# Altium schematic symbol library ICs.SchLib: 74 symbols (part 2 of 2)
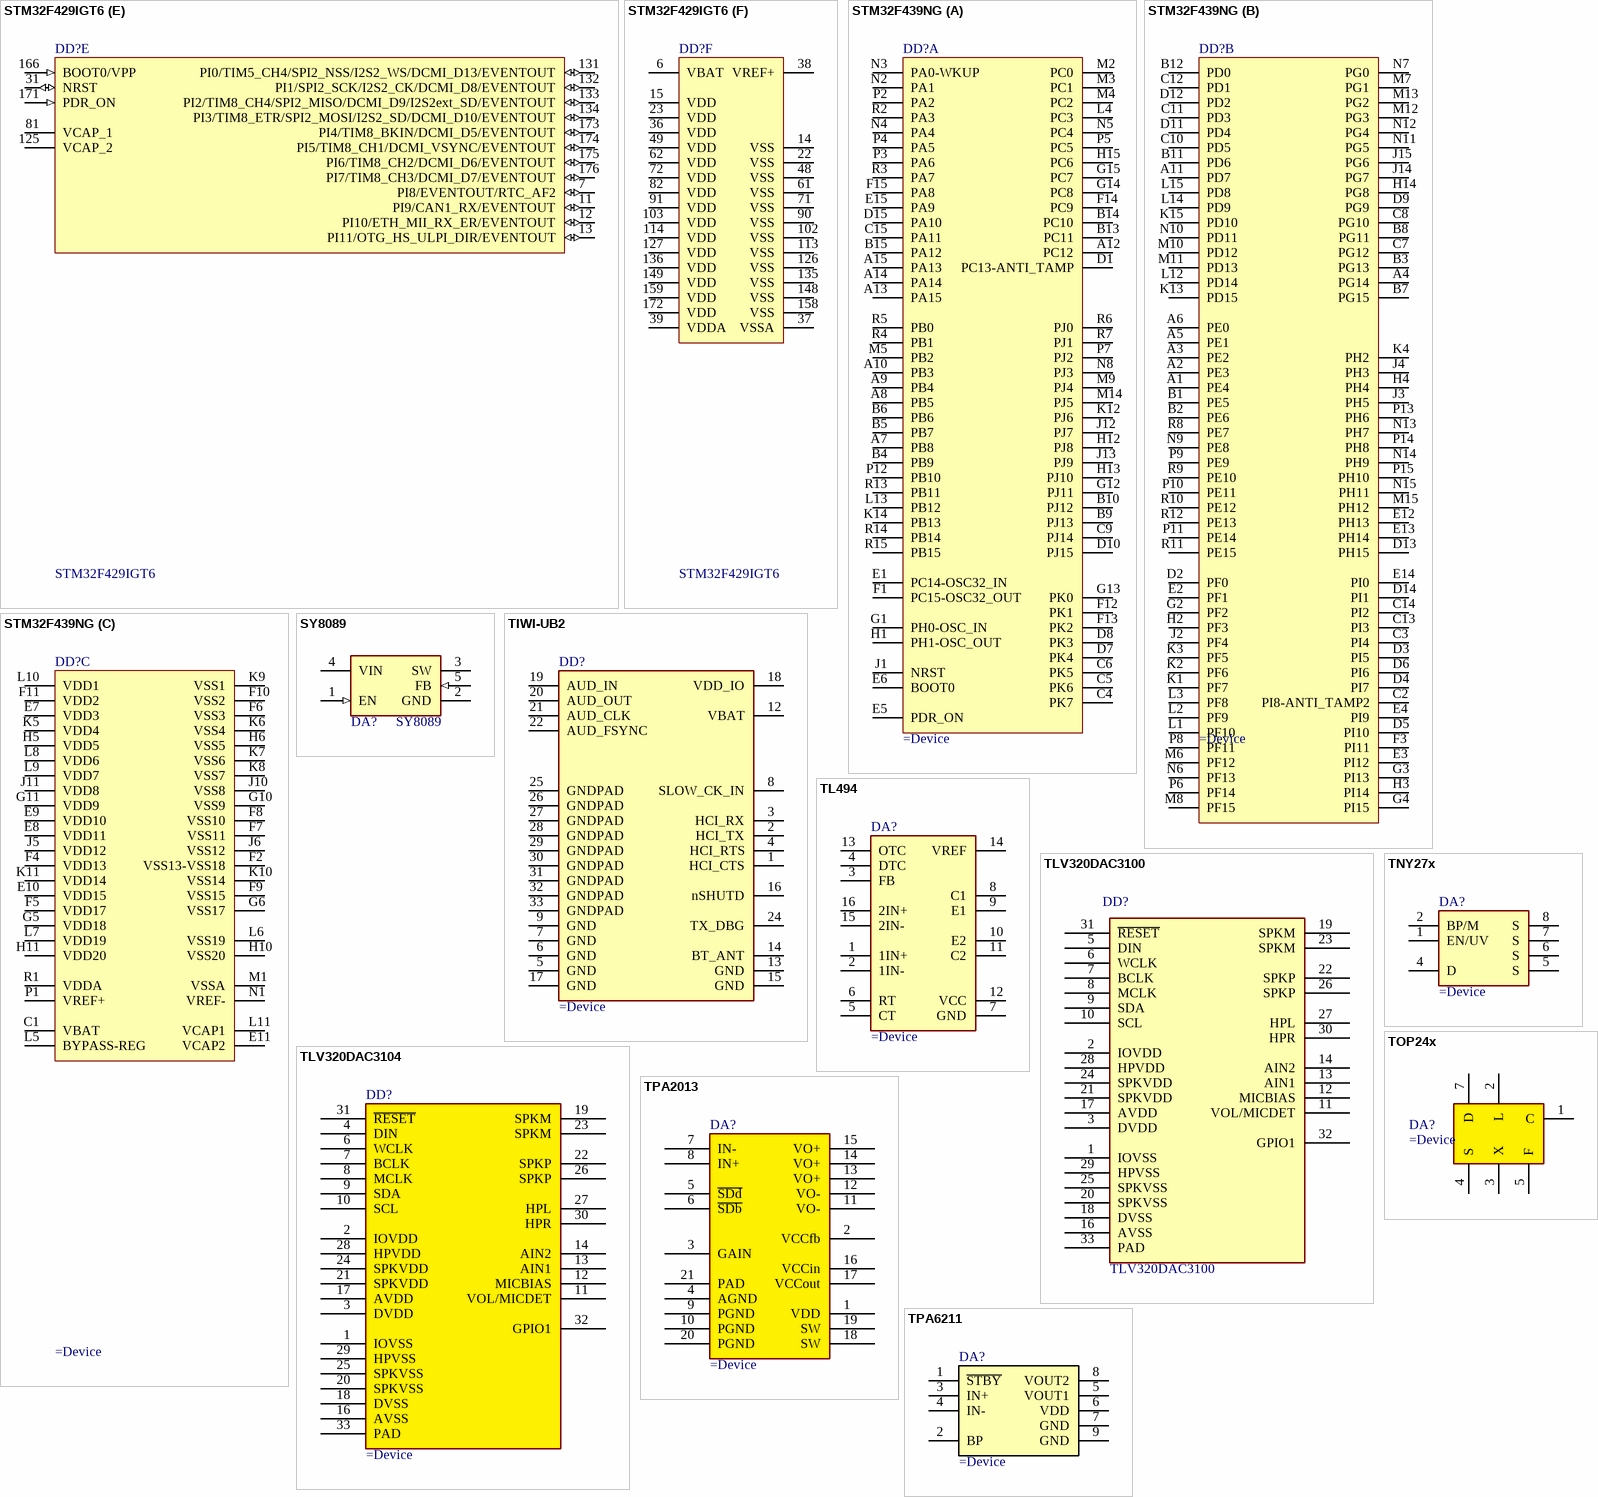
[diagram p11: symbols STM32F429IGT6 to TPA6211]

## STM32F429IGT6
designator DD?
ARM Cortex-M4 32b MCU+FPU, 210DMIP, 512 kB Flash, 192+4 kB RAM, Crypto, Camera, 140 I/Os, 176-pin LQFP, -40 to +85°C, Tray; Internal RAM: 192kB; Operating Frequency (Processor Speed): 168MHz; A/D Converter: 24x12-bit; D/A Converter: 2x12-bit; 16-bit Timers (IC/OC/PWM): 12x16-bit(24/24/30); 32-bit Timer (IC/OC/PWM): 2x32-bit (8/8/8); Other Timer Functions: 2xWDG, RTC, 24-bit down counter; Serial Interface: 3xSPI/2xI2S/2xI2C/3xUSART(IrDa, ISO7816); DatasheetVersion: rev2, Jan-2012; PackageVersion: 2012; PackageReference: LQFP176; PackageDescription: 176-Pin Low Profile Quad Flat Package, 24 x 24 mm Body, 0.5 mm Pitch; ComponentLink1Description: Manufacturer URL; ComponentLink1URL: http://www.st.com/; ComponentLink2Description: STM32F415/7 Datasheet; ComponentLink2URL: http://www.st.com/internet/com/TECHNICAL_RESOURCES/TECHNICAL_LITERATURE/DATASHEET/DM00035129.pdf; ComponentLink3Description: STM32F4 Web Page; ComponentLink3URL: http://www.st.com/internet/mcu/subclass/1521.jsp; PartNumber: STM32F429IGT6
footprint LQFP176_N (Thin QFP, 176-Leads, Body 24x24mm, Pitch 0.5mm, IPC Medium Density)
footprint LQFP176_L (Thin QFP, 176-Leads, Body 24x24mm, Pitch 0.5mm, IPC High Density)
footprint LQFP176_M (Thin QFP, 176-Leads, Body 24x24mm, Pitch 0.5mm, IPC Low Density)
part A pins: 40 PA0-WKUP(PA0)/USART2_CTS/UART4_TX/ETH_MII_CRS/TIM2_CH1_ETR/TIM5_CH1/TIM8_ETR/EVENTOUT/ADC123_IN0/WKUP (io), 41 PA1/USART2_RTS/UART4_RX/ETH_RMII_REF_CLK/ETH_MII_RX_CLK/TIM5_CH2/TIM2_CH2/EVENTOUT/ADC123_IN1 (io), 42 PA2/USART2_TX/TIM5_CH3/TIM9_CH1/TIM2_CH3/ETH_MDIO/EVENTOUT/ADC123_IN2 (io), 47 PA3/USART2_RX/TIM5_CH4/TIM9_CH2/TIM2_CH4/OTG_HS_ULPI_D0/ETH_MII_COL/EVENTOUT/ADC123_IN3 (io), 50 PA4/SPI1_NSS/SPI3_NSS/USART2_CK/DCMI_HSYNC/OTG_HS_SOF/I2S3_WS/EVENTOUT/ADC12_IN4/DAC1_OUT (io), 51 PA5/SPI1_SCK/OTG_HS_ULPI_CK/TIM2_CH1_ETR/TIM8_CHIN/EVENTOUT/ADC12_IN5/DAC2_OUT (io), 52 PA6/SPI1_MISO/TIM8_BKIN/TIM13_CH1/DCMI_PIXCLK/TIM3_CH1/TIM1_BKIN/EVENTOUT/ADC12_IN6 (io), 53 PA7/SPI1_MOSI/TIM8_CH1N/TIM14_CH1/TIM3_CH2/ETH_MII_RX_DV/TIM1_CH1N/RMII_CRS_DV/EVENTOUT/ADC12_IN7 (io), 56 PB0/TIM3_CH3/TIM8_CH2N/OTG_HS_ULPI_D1/ETH_MII_RXD2/TIM1_CH2N/EVENTOUT/ADC12_IN8 (io), 57 PB1/TIM3_CH4/TIM8_CH3N/OTG_HS_ULPI_D2/ETH_MII_RXD3/OTG_HS_INTN/TIM1_CH3N/EVENTOUT/ADC12_IN9 (io), 58 PB2-BOOT1(PB2)/EVENTOUT (io), 79 PB10/SPI2_SCK/I2S2_CK/I2C2_SCL/USART3_TX/OTG_HS_ULPI_D3/ETH_MII_RX_ER/TIM2_CH3/EVENTOUT (io), 80 PB11/I2C2_SDA/USART3_RX/OTG_HS_ULPI_D4/ETH_RMII_TX_EN/ETH_MII_TX_EN/TIM2_CH4/EVENTOUT (io), 92 PB12/SPI2_NSS/I2S2_WS/I2C2_SMBA/USART3_CK/TIM1_BKIN/CAN2_RX/OTG_HS_ULPI_D5/ETH_RMII_TXD0/ETH_MII_TXD0/OTG_HS_ID/EVENTOUT (io), 93 PB13/SPI2_SCK/I2S2_CK/USART3_CTS/TIM1_CH1N/CAN2_TX/OTG_HS_ULPI_D6/ETH_RMII_TXD1/ETH_MII_TXD1/EVENTOUT/OTG_HS_VBUS (io), 94 PB14/SPI2_MISO/TIM1_CH2N/TIM12_CH1/OTG_HS_DM/USART3_RTS/TIM8_CH2N/I2S2ext_SD/EVENTOUT (io), 95 PB15/SPI2_MOSI/I2S2_SD/TIM1_CH3N/TIM8_CH3N/TIM12_CH2/OTG_HS_DP/EVENTOUT (io), 119 PA8/MCO1/USART1_CK/TIM1_CH1/I2C3_SCL/OTG_FS_SOF/EVENTOUT (io), 120 PA9/USART1_TX/TIM1_CH2/I2C3_SMBA/DCMI_D0/EVENTOUT/OTG_FS_VBUS (io), 121 PA10/USART1_RX/TIM1_CH3/OTG_FS_ID/DCMI_D1/EVENTOUT (io), 122 PA11/USART1_CTS/CAN1_RX/TIM1_CH4/OTG_FS_DM/EVENTOUT (io), 123 PA12/USART1_RTS/CAN1_TX/TIM1_ETR/OTG_FS_DP/EVENTOUT (io), 124 PA13(JTMS-SWDIO)/JTMS-SWDIO/EVENTOUT (io), 137 PA14(JTCK-SWCLK)/JTCK-SWCLK/EVENTOUT (io), 138 PA15(JTDI)/JTDI/SPI3_NSS/I2S3_WS/TIM2_CH1_ETR/SPI1_NSS/EVENTOUT (io), 161 PB3(JTDO/TRACESWO)/JTDO/TRACESWO/SPI3_SCK/I2S3_CK/TIM2_CH2/SPI1_SCK/EVENTOUT (io), 162 PB4(NJTRST)/NJTRST/SPI3_MISO/TIM3_CH1/SPI1_MISO/I2S3ext_SD/EVENTOUT (io), 163 PB5/I2C1_SMBA/CAN2_RX/OTG_HS_ULPI_D7/ETH_PPS_OUT/TIM3_CH2/SPI1_MOSI/SPI3_MOSI/DCMI_D10/I2S3_SD/EVENTOUT (io), 164 PB6/I2C1_SCL/TIM4_CH1/CAN2_TX/DCMI_D5/USART1_TX/EVENTOUT (io), 165 PB7/I2C1_SDA/FSMC_NL/DCMI_VSYNC/USART1_RX/TIM4_CH2/EVENTOUT (io), 167 PB8/TIM4_CH3/SDIO_D4/TIM10_CH1/DCMI_D6/ETH_MII_TXD3/I2C1_SCL/CAN1_RX/EVENTOUT (io), 168 PB9/SPI2_NSS/I2S2_WS/TIM4_CH4/TIM11_CH1/SDIO_D5/DCMI_D7/I2C1_SDA/CAN1_TX/EVENTOUT (io)
part B pins: 8 PC13/EVENTOUT/RTC_AF1 (io), 9 PC14-OSC32_IN(PC14)/EVENTOUT/OSC32_IN (io), 10 PC15-OSC32_OUT(PC15)/EVENTOUT/OSC32_OUT (io), 32 PC0/OTG_HS_ULPI_STP/EVENTOUT/ADC123_IN10 (io), 33 PC1/ETH_MDC/EVENTOUT/ADC123_IN11 (io), 34 PC2/SPI2_MISO/OTG_HS_ULPI_DIR/TH_MII_TXD2/I2S2ext_SD/EVENTOUT/ADC123_IN12 (io), 35 PC3/SPI2_MOSI/I2S2_SD/OTG_HS_ULPI_NXT/ETH_MII_TX_CLK/EVENTOUT/ADC123_IN13 (io), 54 PC4/ETH_RMII_RX_D0/ETH_MII_RX_D0/EVENTOUT/ADC12_IN14 (io), 55 PC5/ETH_RMII_RX_D1/ETH_MII_RX_D1/EVENTOUT/ADC12_IN15 (io), 96 PD8/FSMC_D13/USART3_TX/EVENTOUT (io), 97 PD9/FSMC_D14/USART3_RX/EVENTOUT (io), 98 PD10/FSMC_D15/USART3_CK/EVENTOUT (io), 99 PD11/FSMC_CLE/FSMC_A16/USART3_CTS/EVENTOUT (io), 100 PD12/FSMC_ALE/FSMC_A17/TIM4_CH1/USART3_RTS/EVENTOUT (io), 101 PD13/FSMC_A18/TIM4_CH2/EVENTOUT (io), 104 PD14/FSMC_D0/TIM4_CH3/EVENTOUT/EVENTOUT (io), 105 PD15/FSMC_D1/TIM4_CH4/EVENTOUT (io), 115 PC6/I2S2_MCK/TIM8_CH1/SDIO_D6/USART6_TX/DCMI_D0/TIM3_CH1/EVENTOUT (io), 116 PC7/I2S3_MCK/TIM8_CH2/SDIO_D7/USART6_RX/DCMI_D1/TIM3_CH2/EVENTOUT (io), 117 PC8/TIM8_CH3/SDIO_D0/TIM3_CH3/USART6_CK/DCMI_D2/EVENTOUT (io), 118 PC9/I2S_CKIN/MCO2/TIM8_CH4/SDIO_D1//I2C3_SDA/DCMI_D3/TIM3_CH4/EVENTOUT (io), 139 PC10/SPI3_SCK/I2S3_CK/UART4_TX/SDIO_D2/DCMI_D8/USART3_TX/EVENTOUT (io), 140 PC11/UART4_RX/SPI3_MISO/SDIO_D3/DCMI_D4/USART3_RX/I2S3ext_SD/EVENTOUT (io), 141 PC12/UART5_TX/SDIO_CK/DCMI_D9/SPI3_MOSI/I2S3_SD/USART3_CK/EVENTOUT (io), 142 PD0/FSMC_D2/CAN1_RX/EVENTOUT (io), 143 PD1/FSMC_D3/CAN1_TX/EVENTOUT (io), 144 PD2/TIM3_ETR/UART5_RX/SDIO_CMD/DCMI_D11/EVENTOUT (io), 145 PD3/FSMC_CLK/USART2_CTS/EVENTOUT (io), 146 PD4/FSMC_NOE/USART2_RTS/EVENTOUT (io), 147 PD5/FSMC_NWE/USART2_TX/EVENTOUT (io), 150 PD6/FSMC_NWAIT/USART2_RX/EVENTOUT (io), 151 PD7/USART2_CK/FSMC_NE1/FSMC_NCE2/EVENTOUT (io)
part C pins: 1 PE2/TRACECLK/FSMC_A23/ETH_MII_TXD3/EVENTOUT (io), 2 PE3/TRACED0/FSMC_A19/EVENTOUT (io), 3 PE4/TRACED1/FSMC_A20/DCMI_D4/EVENTOUT (io), 4 PE5/TRACED2/FSMC_A21/TIM9_CH1/DCMI_D6/EVENTOUT (io), 5 PE6/TRACED3/FSMC_A22/TIM9_CH2/DCMI_D7/EVENTOUT (io), 16 PF0/FSMC_A0/I2C2_SDA/EVENTOUT (io), 17 PF1/FSMC_A1/I2C2_SCL/EVENTOUT (io), 18 PF2/FSMC_A2/I2C2_SMBA/EVENTOUT (io), 19 PF3/FSMC_A3/EVENTOUT/ADC3_IN9 (io), 20 PF4/FSMC_A4/EVENTOUT/ADC3_IN14 (io), 21 PF5/FSMC_A5/EVENTOUT/ADC3_IN15 (io), 24 PF6/TIM10_CH1/FSMC_NIORD/EVENTOUT/ADC3_IN4 (io), 25 PF7/TIM11_CH1/FSMC_NREG/EVENTOUT/ADC3_IN5 (io), 26 PF8/TIM13_CH1/FSMC_NIOWR/EVENTOUT/ADC3_IN6 (io), 27 PF9/TIM14_CH1/FSMC_CD/EVENTOUT/ADC3_IN7 (io), 28 PF10/FSMC_INTR/EVENTOUT/ADC3_IN8 (io), 59 PF11/DCMI_12/EVENTOUT (io), 60 PF12/FSMC_A6/EVENTOUT (io), 63 PF13/FSMC_A7/EVENTOUT (io), 64 PF14/FSMC_A8/EVENTOUT (io), 65 PF15/FSMC_A9/EVENTOUT (io), 68 PE7/FSMC_D4/TIM1_ETR/EVENTOUT (io), 69 PE8/FSMC_D5/TIM1_CH1N/EVENTOUT (io), 70 PE9/FSMC_D6/TIM1_CH1/EVENTOUT (io), 73 PE10/FSMC_D7/TIM1_CH2N/EVENTOUT (io), 74 PE11/FSMC_D8/TIM1_CH2/EVENTOUT (io), 75 PE12/FSMC_D9/TIM1_CH3N/EVENTOUT (io), 76 PE13/FSMC_D10/TIM1_CH3/EVENTOUT (io), 77 PE14/FSMC_D11/TIM1_CH4/EVENTOUT (io), 78 PE15/FSMC_D12/TIM1_BKIN/EVENTOUT (io), 169 PE0/TIM4_ETR/FSMC_NBL0/DCMI_D2/EVENTOUT (io), 170 PE1/FSMC_NBL1/DCMI_D3/EVENTOUT (io)
part D pins: 29 PH0-OSC_IN(PH0)/EVENTOUT/OSC_IN (io), 30 PH1-OSC_OUT(PH1)/EVENTOUT/OSC_OUT (io), 43 PH2/ETH_MII_CRS/EVENTOUT (io), 44 PH3/ETH_MII_COL/EVENTOUT (io), 45 PH4/I2C2_SCL/OTG_HS_ULPI_NXT/EVENTOUT (io), 46 PH5/I2C2_SDA/EVENTOUT (io), 66 PG0/FSMC_A10/EVENTOUT (io), 67 PG1/FSMC_A11/EVENTOUT (io), 83 PH6/I2C2_SMBA/TIM12_CH1/ETH_MII_RXD2/EVENTOUT (io), 84 PH7/I2C3_SCL/ETH_MII_RXD3/EVENTOUT (io), 85 PH8/I2C3_SDA/DCMI_HSYNC/EVENTOUT (io), 86 PH9/I2C3_SMBA/TIM12_CH2/DCMI_D0/EVENTOUT (io), 87 PH10/TIM5_CH1/DCMI_D1/EVENTOUT (io), 88 PH11/TIM5_CH2/DCMI_D2/EVENTOUT (io), 89 PH12/TIM5_CH3/DCMI_D3/EVENTOUT (io), 106 PG2/FSMC_A12/EVENTOUT (io), 107 PG3/FSMC_A13/EVENTOUT (io), 108 PG4/FSMC_A14/EVENTOUT (io), 109 PG5/FSMC_A15/EVENTOUT (io), 110 PG6/FSMC_INT2/EVENTOUT (io), 111 PG7/FSMC_INT3/USART6_CK/EVENTOUT (io), 112 PG8/USART6_RTS/ETH_PPS_OUT/EVENTOUT (io), 128 PH13/TIM8_CH1N/CAN1_TX/EVENTOUT (io), 129 PH14/TIM8_CH2N/DCMI_D4/EVENTOUT (io), 130 PH15/TIM8_CH3N/DCMI_D11/EVENTOUT (io), 152 PG9/USART6_RX/FSMC_NE2/FSMC_NCE3/EVENTOUT (io), 153 PG10/FSMC_NCE4_1/FSMC_NE3/EVENTOUT (io), 154 PG11/FSMC_NCE4_2/ETH_MII_TX_EN/ETH_RMII_TX_EN/EVENTOUT (io), 155 PG12/FSMC_NE4/USART6_RTS/EVENTOUT (io), 156 PG13/FSMC_A24/USART6_CTS/ETH_MII_TXD0/ETH_RMII_TXD0/EVENTOUT (io), 157 PG14/FSMC_A25/USART6_TX/ETH_MII_TXD1/ETH_RMII_TXD1/EVENTOUT (io), 160 PG15/USART6_CTS/DCMI_D13/EVENTOUT (io)
part E pins: 7 PI8/EVENTOUT/RTC_AF2 (io), 11 PI9/CAN1_RX/EVENTOUT (io), 12 PI10/ETH_MII_RX_ER/EVENTOUT (io), 13 PI11/OTG_HS_ULPI_DIR/EVENTOUT (io), 31 NRST (io), 81 VCAP_1 (power), 125 VCAP_2 (power), 131 PI0/TIM5_CH4/SPI2_NSS/I2S2_WS/DCMI_D13/EVENTOUT (io), 132 PI1/SPI2_SCK/I2S2_CK/DCMI_D8/EVENTOUT (io), 133 PI2/TIM8_CH4/SPI2_MISO/DCMI_D9/I2S2ext_SD/EVENTOUT (io), 134 PI3/TIM8_ETR/SPI2_MOSI/I2S2_SD/DCMI_D10/EVENTOUT (io), 166 BOOT0/VPP (in), 171 PDR_ON (in), 173 PI4/TIM8_BKIN/DCMI_D5/EVENTOUT (io), 174 PI5/TIM8_CH1/DCMI_VSYNC/EVENTOUT (io), 175 PI6/TIM8_CH2/DCMI_D6/EVENTOUT (io), 176 PI7/TIM8_CH3/DCMI_D7/EVENTOUT (io)
part F pins: 6 VBAT (power), 14 VSS (power), 15 VDD (power), 22 VSS (power), 23 VDD (power), 36 VDD (power), 37 VSSA (power), 38 VREF+ (power), 39 VDDA (power), 48 VSS (power), 49 VDD (power), 61 VSS (power), 62 VDD (power), 71 VSS (power), 72 VDD (power), 82 VDD (power), 90 VSS (power), 91 VDD (power), 102 VSS (power), 103 VDD (power), 113 VSS (power), 114 VDD (power), 126 VSS (power), 127 VDD (power), 135 VSS (power), 136 VDD (power), 148 VSS (power), 149 VDD (power), 158 VSS (power), 159 VDD (power), 172 VDD (power)

## STM32F439NG
designator DD?
PartNumber: STM32F439NG
footprint TFBGA216
part A pins: A7 PB8, A8 PB5, A9 PB4, A10 PB3, A12 PC12, A13 PA15, A14 PA14, A15 PA13, B4 PB9, B5 PB7, B6 PB6, B9 PJ13, B10 PJ12, B13 PC11, B14 PC10, B15 PA12, C4 PK7, C5 PK6, C6 PK5, C9 PJ14, C15 PA11, D1 PC13-ANTI_TAMP, D7 PK4, D8 PK3, D10 PJ15, D15 PA10, E1 PC14-OSC32_IN, E5 PDR_ON, E6 BOOT0, E15 PA9, F1 PC15-OSC32_OUT, F12 PK1, F13 PK2, F14 PC9, F15 PA8, G1 PH0-OSC_IN, G12 PJ11, G13 PK0, G14 PC8, G15 PC7, H1 PH1-OSC_OUT, H12 PJ8, H13 PJ10, H15 PC6, J1 NRST, J12 PJ7, J13 PJ9, K12 PJ6, K14 PB13, L4 PC3, L13 PB12, M2 PC0, M3 PC1, M4 PC2, M5 PB2, M9 PJ4, M14 PJ5, N2 PA1, N3 PA0-WKUP, N4 PA4, N5 PC4, N8 PJ3, P2 PA2, P3 PA6, P4 PA5, P5 PC5, P7 PJ2, P12 PB10, R2 PA3, R3 PA7, R4 PB1, R5 PB0, R6 PJ0, R7 PJ1, R13 PB11, R14 PB14, R15 PB15
part B pins: A1 PE4, A2 PE3, A3 PE2, A4 PG14, A5 PE1, A6 PE0, A11 PD7, B1 PE5, B2 PE6, B3 PG13, B7 PG15, B8 PG11, B11 PD6, B12 PD0, C2 PI8-ANTI_TAMP2, C3 PI4, C7 PG12, C8 PG10, C10 PD5, C11 PD3, C12 PD1, C13 PI3, C14 PI2, D2 PF0, D3 PI5, D4 PI7, D5 PI10, D6 PI6, D9 PG9, D11 PD4, D12 PD2, D13 PH15, D14 PI1, E2 PF1, E3 PI12, E4 PI9, E12 PH13, E13 PH14, E14 PI0, F3 PI11, G2 PF2, G3 PI13, G4 PI15, H2 PF3, H3 PI14, H4 PH4, H14 PG8, J2 PF4, J3 PH5, J4 PH3, J14 PG7, J15 PG6, K1 PF7, K2 PF6, K3 PF5, K4 PH2, K13 PD15, K15 PD10, L1 PF10, L2 PF9, L3 PF8, L12 PD14, L14 PD9, L15 PD8, M6 PF12, M7 PG1, M8 PF15, M10 PD12, M11 PD13, M12 PG3, M13 PG2, M15 PH12, N6 PF13, N7 PG0, N9 PE8, N10 PD11, N11 PG5, N12 PG4, N13 PH7, N14 PH9, N15 PH11, P6 PF14, P8 PF11, P9 PE9, P10 PE11, P11 PE14, P13 PH6, P14 PH8, P15 PH10, R8 PE7, R9 PE10, R10 PE12, R11 PE15, R12 PE13
part C pins: C1 VBAT, E7 VDD3, E8 VDD11, E9 VDD10, E10 VDD15, E11 VCAP2, F2 VSS13-VSS18, F4 VDD13, F5 VDD17, F6 VSS3, F7 VSS11, F8 VSS10, F9 VSS15, F10 VSS2, F11 VDD2, G5 VDD18, G6 VSS17, G10 VSS9, G11 VDD9, H5 VDD5, H6 VSS5, H10 VSS20, H11 VDD20, J5 VDD12, J6 VSS12, J10 VSS8, J11 VDD8, K5 VDD4, K6 VSS4, K7 VSS6, K8 VSS7, K9 VSS1, K10 VSS14, K11 VDD14, L5 BYPASS-REG, L6 VSS19, L7 VDD19, L8 VDD6, L9 VDD7, L10 VDD1, L11 VCAP1, M1 VSSA, N1 VREF-, P1 VREF+, R1 VDDA
2 alternate drawings of the same symbol

## SY8089
designator DA?
Table: Regulators; Part Number: SY8089; Device: SY8089
footprint SOT23-5
pins: 1 EN (in), 2 GND (power), 3 SW (power), 4 VIN (power), 5 FB (in)

## TIWI-UB2
designator DD?
pins: 1 HCI_CTS "Resistor", 2 HCI_TX "Resistor", 3 HCI_RX "Resistor", 4 HCI_RTS "Resistor", 5 GND "Resistor", 6 GND "Resistor", 7 GND "Resistor", 8 SLOW_CK_IN "Resistor", 9 GND "Resistor", 12 VBAT "Resistor", 13 GND "Resistor", 14 BT_ANT "Resistor", 15 GND "Resistor", 16 nSHUTD "Resistor", 17 GND "Resistor", 18 VDD_IO "Resistor", 19 AUD_IN "Resistor", 20 AUD_OUT "Resistor", 21 AUD_CLK "Resistor", 22 AUD_FSYNC "Resistor", 24 TX_DBG "Resistor", 25 GNDPAD "Resistor", 26 GNDPAD "Resistor", 27 GNDPAD "Resistor", 28 GNDPAD "Resistor", 29 GNDPAD "Resistor", 30 GNDPAD "Resistor", 31 GNDPAD "Resistor", 32 GNDPAD "Resistor", 33 GNDPAD "Resistor"

## TL494
designator DA?
pins: 1 1IN+, 2 1IN-, 3 FB, 4 DTC, 5 CT, 6 RT, 7 GND, 8 C1, 9 E1, 10 E2, 11 C2, 12 VCC, 13 OTC, 14 VREF, 15 2IN-, 16 2IN+

## TLV320DAC3100
designator DD?
PartNumber: TLV320DAC3100
footprint QFN32 (QFN, 32-Leads, Body 5,00x5,00mm, Pitch 0,50mm, Thermal Pad 3,50x3,50mm, IPC Medium Density)
pins: 1 IOVSS, 2 IOVDD, 3 DVDD, 5 DIN, 6 WCLK, 7 BCLK, 8 MCLK, 9 SDA, 10 SCL, 11 VOL/MICDET, 12 MICBIAS, 13 AIN1, 14 AIN2, 16 AVSS, 17 AVDD, 18 DVSS, 19 SPKM, 20 SPKVSS, 21 SPKVDD, 22 SPKP, 23 SPKM, 24 SPKVDD, 25 SPKVSS, 26 SPKP, 27 HPL, 28 HPVDD, 29 HPVSS, 30 HPR, 31 ~{RESET}, 32 GPIO1, 33 PAD

## TLV320DAC3104
designator DD?
pins: 1 IOVSS, 2 IOVDD, 3 DVDD, 4 DIN, 6 WCLK, 7 BCLK, 8 MCLK, 9 SDA, 10 SCL, 11 VOL/MICDET, 12 MICBIAS, 13 AIN1, 14 AIN2, 16 AVSS, 17 AVDD, 18 DVSS, 19 SPKM, 20 SPKVSS, 21 SPKVDD, 22 SPKP, 23 SPKM, 24 SPKVDD, 25 SPKVSS, 26 SPKP, 27 HPL, 28 HPVDD, 29 HPVSS, 30 HPR, 31 ~{RESET}, 32 GPIO1, 33 PAD

## TNY27x
designator DA?
pins: 1 EN/UV, 2 BP/M, 4 D, 5 S, 6 S, 7 S, 8 S

## TOP24x
designator DA?
pins: 1 C, 2 L, 3 X, 4 S, 5 F, 7 D

## TPA2013
designator DA?
Amplifier
pins: 1 VDD, 2 VCCfb, 3 GAIN, 4 AGND, 5 ~{SDd}, 6 ~{SDb}, 7 IN-, 8 IN+, 9 PGND, 10 PGND, 11 VO-, 12 VO-, 13 VO+, 14 VO+, 15 VO+, 16 VCCin, 17 VCCout, 18 SW, 19 SW, 20 PGND, 21 PAD

## TPA6211
designator DA?
pins: 1 ~{STBY}, 2 BP, 3 IN+, 4 IN-, 5 VOUT1, 6 VDD, 7 GND, 8 VOUT2, 9 GND

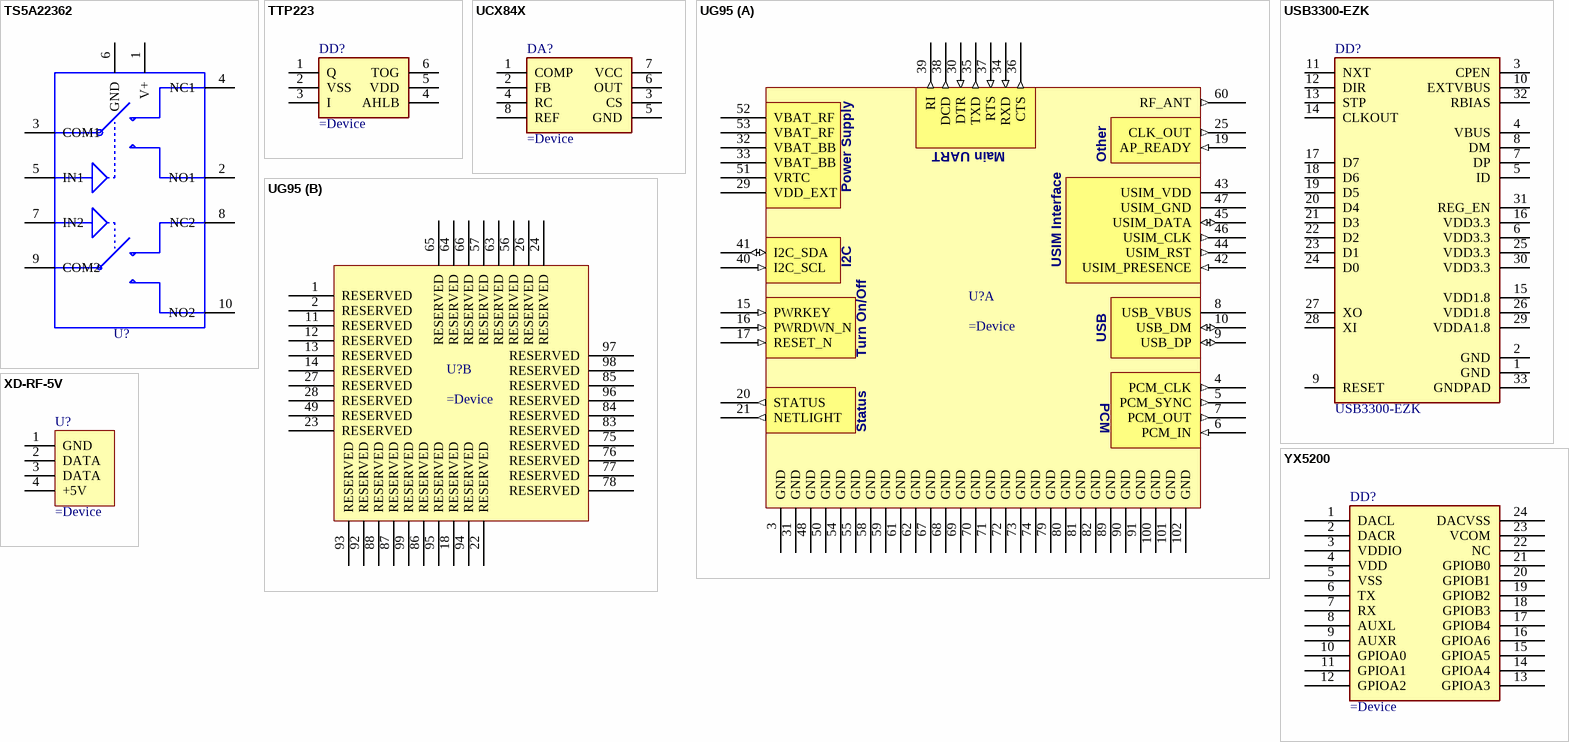
[diagram p10: symbols TS5A22362 to YX5200]

## TS5A22362
designator U?
PCB DECAL: TS5A22362; VALUE: NM_TS5A22362DGSR
pins: 1 V+, 2 NO1, 3 COM1, 4 NC1, 5 IN1, 6 GND, 7 IN2, 8 NC2, 9 COM2, 10 NO2

## TTP223
designator DD?
pins: 1 Q, 2 VSS, 3 I, 4 AHLB, 5 VDD, 6 TOG

## UCX84X
designator DA?
pins: 1 COMP, 2 FB, 3 CS, 4 RC, 5 GND, 6 OUT, 7 VCC, 8 REF

## UG95
designator U?
part A pins: 3 GND  (power), 4 PCM_CLK (out), 5 PCM_SYNC (out), 6 PCM_IN (in), 7 PCM_OUT (out), 8 USB_VBUS (power), 9 USB_DP (io), 10 USB_DM (io), 15 PWRKEY (in), 16 PWRDWN_N (in), 17 RESET_N (in), 19 AP_READY (in), 20 STATUS (out), 21 NETLIGHT (out), 25 CLK_OUT (out), 29 VDD_EXT (power), 30 DTR (in), 31 GND  (power), 32 VBAT_BB (power), 33 VBAT_BB (power), 34 RXD (in), 35 TXD (out), 36 CTS (out), 37 RTS (in), 38 DCD (out), 39 RI (out), 40 I2C_SCL (in), 41 I2C_SDA (io), 42 USIM_PRESENCE (in), 43 USIM_VDD (power), 44 USIM_RST (out), 45 USIM_DATA (io), 46 USIM_CLK (out), 47 USIM_GND (power), 48 GND  (power), 50 GND  (power), 51 VRTC (power), 52 VBAT_RF (power), 53 VBAT_RF (power), 54 GND  (power), 55 GND  (power), 58 GND  (power), 59 GND  (power), 60 RF_ANT (out), 61 GND  (power), 62 GND  (power), 67 GND  (power), 68 GND  (power), 69 GND  (power), 70 GND  (power), 71 GND  (power), 72 GND  (power), 73 GND  (power), 74 GND  (power), 79 GND  (power), 80 GND  (power), 81 GND  (power), 82 GND  (power), 89 GND  (power), 90 GND  (power), 91 GND  (power), 100 GND  (power), 101 GND  (power), 102 GND  (power)
part B pins: 1 RESERVED, 2 RESERVED, 11 RESERVED, 12 RESERVED, 13 RESERVED, 14 RESERVED, 18 RESERVED, 22 RESERVED, 23 RESERVED, 24 RESERVED, 26 RESERVED, 27 RESERVED, 28 RESERVED, 49 RESERVED, 56 RESERVED, 57 RESERVED, 63 RESERVED, 64 RESERVED, 65 RESERVED, 66 RESERVED, 75 RESERVED, 76 RESERVED, 77 RESERVED, 78 RESERVED, 83 RESERVED, 84 RESERVED, 85 RESERVED, 86 RESERVED, 87 RESERVED, 88 RESERVED, 92 RESERVED, 93 RESERVED, 94 RESERVED, 95 RESERVED, 96 RESERVED, 97 RESERVED, 98 RESERVED, 99 RESERVED
part A text: Main UART; Other; Power Supply; I2C; USIM Interface; USB; Turn On/Off; PCM; Status

## USB3300-EZK
designator DD?  PartNumber: USB3300-EZK
footprint QFN32_5x5_0.50_P (QFN, 32-Leads, Body 5,00x5,00mm, Pitch 0,50mm, Thermal Pad 3,50x3,50mm, IPC Medium Density)
pins: 1 GND, 2 GND, 3 CPEN, 4 VBUS, 5 ID, 6 VDD3.3, 7 DP, 8 DM, 9 RESET, 10 EXTVBUS, 11 NXT, 12 DIR, 13 STP, 14 CLKOUT, 15 VDD1.8, 16 VDD3.3, 17 D7, 18 D6, 19 D5, 20 D4, 21 D3, 22 D2, 23 D1, 24 D0, 25 VDD3.3, 26 VDD1.8, 27 XO, 28 XI, 29 VDDA1.8, 30 VDD3.3, 31 REG_EN, 32 RBIAS, 33 GNDPAD

## XD-RF-5V
designator U?
PartNumber: RF-5V_5015
footprint RF-5V _5015
pins: 1 GND, 2 DATA, 3 DATA, 4 +5V

## YX5200
designator DD?
pins: 1 DACL, 2 DACR, 3 VDDIO, 4 VDD, 5 VSS, 6 TX, 7 RX, 8 AUXL, 9 AUXR, 10 GPIOA0, 11 GPIOA1, 12 GPIOA2, 13 GPIOA3, 14 GPIOA4, 15 GPIOA5, 16 GPIOA6, 17 GPIOB4, 18 GPIOB3, 19 GPIOB2, 20 GPIOB1, 21 GPIOB0, 22 NC, 23 VCOM, 24 DACVSS